# Altium schematic symbol library SCH - CONNECTORS - WE 62900416021.Schlib: 1 symbol
Pins are listed as number, name and electrical type; pins without a type are passive.

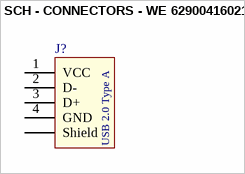
[diagram p0: symbol SCH - CONNECTORS - WE 62900416021]

## SCH - CONNECTORS - WE 62900416021
designator J?
footprint 62900416021 (USB 2.0 SMT Type A Horizontal)
pins: 1 VCC, 2 D-, 3 D+, 4 GND, Shell Shield
text: USB 2.0 Type A